# EAGLE library part JLINK_CONNECT (library flashlight)
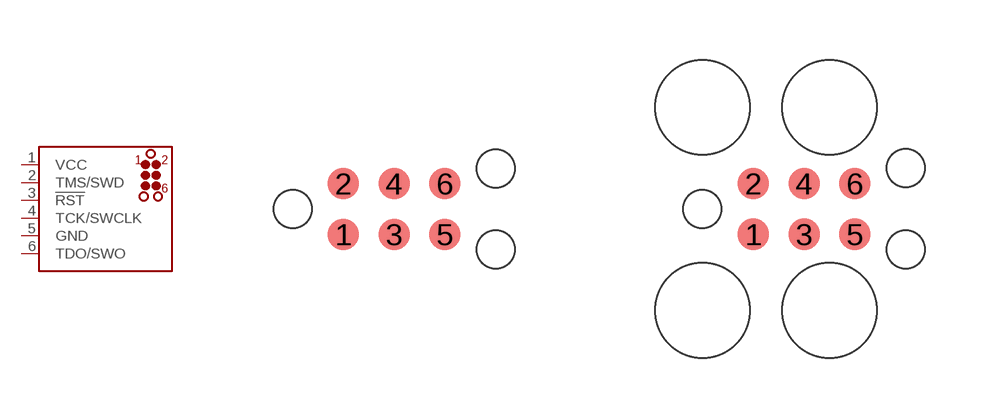
[diagram p1: symbol with the pads of TC2030-MCP-NL; footprints TC2030-MCP-NL, TC2030-MCP]

Designator prefix -

## JLINK_CONNECT  [TC2030-MCP-NL]
1  VCC  pas
2  TMS/SWD
3  !RST!
4  TCK/SWCLK
5  GND  pwr
6  TDO/SWO

## JLINK_CONNECTWL  [TC2030-MCP]
Pads as for TC2030-MCP-NL

## Footprint TC2030-MCP-NL (pad centres in mm)
TAG-CONNECT ISP Connector Manufacturer: Tag-Connect <www.tag-connect.com> Cable for easy In-Circuit PCB Programming. Designed for Microchip ICD2, suitable for many others. PAD Description 1 MCLR/Vpp 2 Vdd 3 GND 4 PGD (ISPDAT) 5 PGC (ISPCLK) 6 nc (used for LVP) ©2009 ROFA.cz
smd 0.787 x 0.787: 1 1.27,-0.635; 2 1.27,0.635; 3 2.54,-0.635; 4 2.54,0.635; 5 3.81,-0.635; 6 3.81,0.635
hole 0.95 at 0,0
hole 0.95 at 5.08,-1.016
hole 0.95 at 5.08,1.016

## Footprint TC2030-MCP (pad centres in mm)
TAG-CONNECT ISP Connector - Legged version Manufacturer: Tag-Connect <www.tag-connect.com> Cable for easy In-Circuit PCB Programming. Designed for Microchip ICD2, suitable for many others. PAD Description 1 MCLR/Vpp 2 Vdd 3 GND 4 PGD (ISPDAT) 5 PGC (ISPCLK) 6 nc (used for LVP) ©2009 ROFA.cz
smd 0.787 x 0.787: 1 1.27,-0.635; 2 1.27,0.635; 3 2.54,-0.635; 4 2.54,0.635; 5 3.81,-0.635; 6 3.81,0.635
hole 0.95 at 0,0
hole 0.95 at 5.08,-1.016
hole 0.95 at 5.08,1.016
hole 2.375 at 0,2.54
hole 2.375 at 0,-2.54
hole 2.375 at 3.175,-2.54
hole 2.375 at 3.175,2.54